# Altium schematic symbol library CBC34803.Schlib: 1 symbol
Pins are listed as number, name and electrical type; pins without a type are passive.

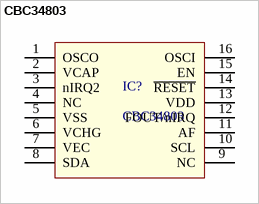
[diagram p0: symbol CBC34803]

## CBC34803
designator IC?
Real Time Clock EnerChip RTC AM0803 5uAh I2C 16-QFN
pins: 1 OSCO, 2 VCAP, 3 nIRQ2, 4 NC, 5 VSS, 6 VCHG, 7 VEC, 8 SDA, 9 NC, 10 SCL, 11 AF, 12 FOUT/nIRQ, 13 VDD, 14 ~{RESET}, 15 EN, 16 OSCI